# Altium footprint library Pattern No3d 20090609.PcbLib: 323 footprints (part 14 of 22)
Each footprint in its own frame and in the unit in brackets; x right, y up, seen from the top. Pads: shape width x height; smd on the part's side, far side on the other; paste and mask are expansions set on the pad; w line width, h text height; cw(c..) or ccw(c..) is an arc to the next point about the centre after c.
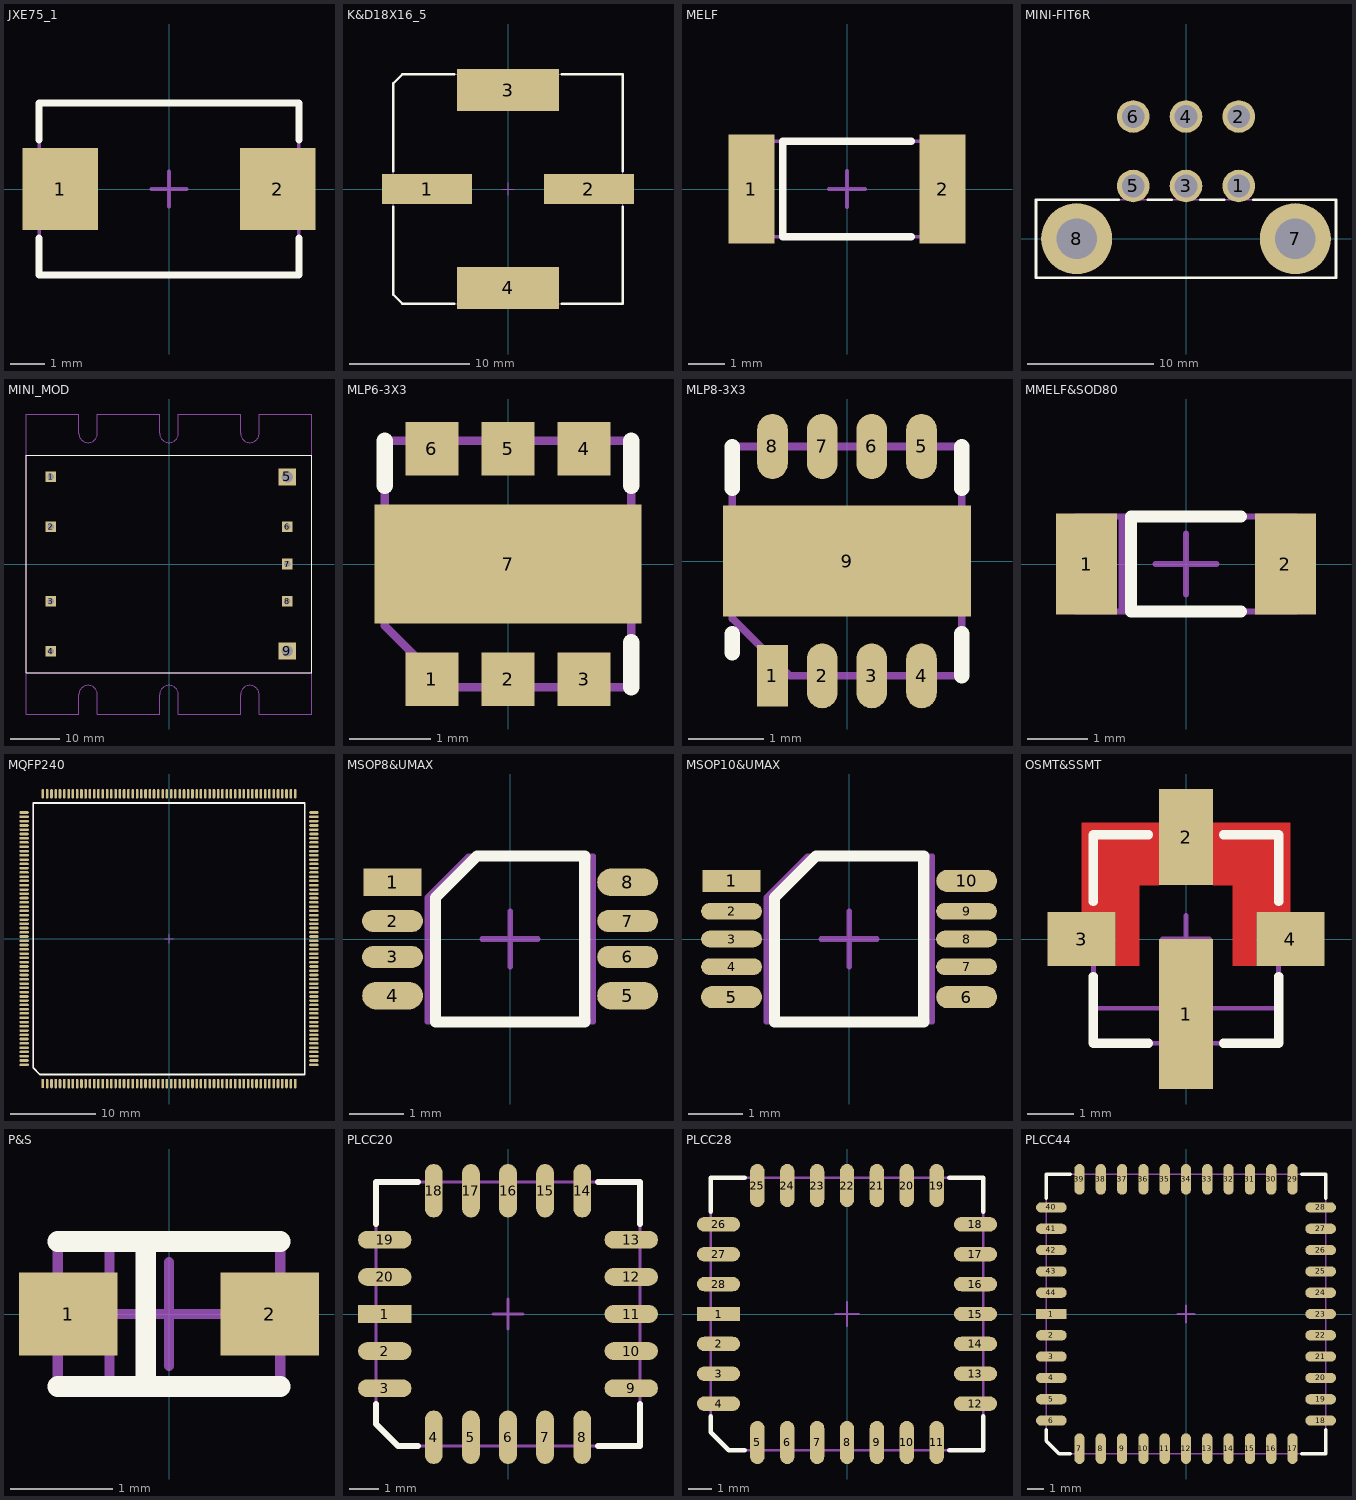
[diagram p13: the footprints below, top view; thin cyan lines are the x and y axes]

## JXE75_1 [mil] "http://www.jauch.de/ablage/med_00000678_1200589682_prd_00000021_de_HCJ015_JXE75.pdf"
pads (2):
  rect 86x94 smd mask+4: 1(-124,0) 2(124,0)
Top Overlay:
  lines w8: -148,-56 -148,-98 148,-98 148,-56 ; -148,56 -148,98 148,98 148,56
Mechanical 1:
  lines w4: -148,-98 -148,98 148,98 148,-98 -148,-98
Mechanical 15:
  lines w4: -20,0 20,0 ; 0,-20 0,20

## K&D18X16_5 [mil] "http://www.panasonic.com/industrial/components/pdf/ABA0000CE11.pdf (Size K16)"
pads (4):
  rect 296x98 smd mask+4: 1(-266,0) 2(266,0)
  rect 336x138 smd mask+4: 3(0,325) 4(0,-325)
Top Overlay:
  lines w8: -377,-58 -377,-347 -347,-377 -177,-377 ; -377,58 -377,347 -347,377 -177,377 ; 177,-377 377,-377 377,-58 ; 177,377 377,377 377,58
Mechanical 1:
  lines w4: -377,-347 -377,347 -347,377 377,377 377,-377 -347,-377 -377,-347
Mechanical 15:
  lines w4: -20,0 20,0 ; 0,-20 0,20

## MELF [mil] "http://www.vishay.com/docs/88527/1n6478.pdf"
pads (2):
  rect 50x118 smd mask+4: 1(-104,0) 2(104,0)
Top Overlay:
  lines w8: 70,-52 -70,-52 -70,52 70,52
Mechanical 1:
  lines w4: -72,-52 -72,52 ; -102,-52 -102,52 102,52 102,-52 -102,-52
Mechanical 15:
  lines w4: -20,0 20,0 ; 0,-20 0,20

## MINI-FIT6R [mil] "http://docs-asia.electrocomponents.com/webdocs/002b/0900766b8002b22c.pdf (Circuits 6)"
pads (8):
  round 102 / inner round 102 / far side oval 102x142 hole 71 mask+4: 1(165,165) 2(165,382) 3(0,165) 4(0,382) 5(-165,165) 6(-165,382)
  round 222 hole 126 mask+4: 7(342,0) 8(-342,0)
Top Overlay:
  lines w8: -210,122 -469,122 -469,-122 469,-122 469,122 210,122 ; -120,122 -45,122 ; 45,122 120,122
Mechanical 1:
  lines w4: -469,-122 469,-122 469,122 -469,122 -469,-122

## MINI_MOD [mil] "http://cdn.vicorpower.com/documents/datasheets/ds_vi-j00.pdf"
pads (9):
  rect 85x85 hole 51 mask+4: 1(-950,700) 2(-950,300) 3(-950,-300) 4(-950,-700) 6(950,300) 7(950,0) 8(950,-300)
  rect 138x138 hole 90 mask+4: 5(950,700) 9(950,-700)
Top Overlay:
  lines w8: -1145,-875 1145,-875 1145,875 -1145,875 -1145,-875
Mechanical 1:
  lines w4: -1145,-875 1145,-875 ; -1145,875 1145,875 ; -1145,-1205 -725,-1205 -725,-1050 cw(c-650,-1050) -575,-1050 -575,-1205 -75,-1205 -75,-1050 cw(c0,-1050) 75,-1050 75,-1205 575,-1205 575,-1050 cw(c650,-1050) 725,-1050 725,-1205 1145,-1205 1145,1205 725,1205 725,1050 cw(c650,1050) 575,1050 575,1205 75,1205 75,1050 cw(c0,1050) -75,1050 -75,1205 -575,1205 -575,1050 cw(c-650,1050) -725,1050 -725,1205 -1145,1205 -1145,-1205

## MLP6-3X3 [mil] "http://www.fairchildsemi.com/dwg/ML/MLP06A.pdf"
pads (7):
  rect 26x26 smd mask-1000: 1(-37,-56) 2(0,-56) 3(37,-56) 4(37,56) 5(0,56) 6(-37,56)
  rect 130x58 smd paste-1000 mask-1000: 7(0,0)
Top Overlay:
  lines w8: -60,38 -60,60 ; 60,-60 60,-38 ; 60,38 60,60
Top Paste:
  region: 11,-13 11,13 -11,13 -11,-13
  region: -23,-13 -23,13 -45,13 -45,-13
  region: 45,-13 45,13 23,13 23,-13
Top Solder:
  region: -22,40 -22,73 -54,73 -54,40
  region: 54,40 54,73 22,73 22,40
  region: 15,40 15,73 -15,73 -15,40
  region: 15,-73 15,-40 -15,-40 -15,-73
  region: 54,-73 54,-40 22,-40 22,-73
  region: 69,-32 69,32 -69,32 -69,-32
  region: -22,-73 -22,-40 -60,-40 -60,-73
Mechanical 1:
  lines w4: -60,-30 -30,-60 60,-60 60,60 -60,60 -60,-30
Mechanical 15:
  lines w4: -20,0 20,0 ; 0,-20 0,20

## MLP8-3X3 [mil] "http://www.fairchildsemi.com/dwg/ML/MLP08D.pdf"
pads (9):
  rect 16x32 smd mask-1000: 1(-39,-60)
  oval 16x34 smd mask-1000: 2(-13,-60) 3(13,-60) 4(39,-60) 5(39,60) 6(13,60) 7(-13,60) 8(-39,60)
  rect 130x58 smd paste-1000 mask-1000: 9(0,0)
Top Overlay:
  lines w8: -60,-48 -60,-38 ; -60,38 -60,60 ; 60,-60 60,-38 ; 60,38 60,60
Top Paste:
  region: 11,-13 11,13 -11,13 -11,-13
  region: -23,-13 -23,13 -45,13 -45,-13
  region: 45,-13 45,13 23,13 23,-13
Top Solder:
  region: 69,-32 69,32 -69,32 -69,-32
  region: -29,-80 -29,-40 -51,-40 -51,-80
  lines w20: -13,-71 -13,-49 ; -13,49 -13,71 ; 13,-71 13,-49 ; 13,49 13,71
  lines w22: -40,50 -40,70 ; 40,-70 40,-50 ; 40,50 40,70
Mechanical 1:
  lines w4: -60,-30 -60,60 60,60 60,-60 -30,-60 -60,-30
Mechanical 15:
  lines w4: -20,0 20,0 ; 0,-20 0,20

## MMELF&SOD80 [mil] "http://www.nxp.com/acrobat_download/packages/SOD80C.pdf"
pads (2):
  rect 40x66 smd mask+4: 1(-65,0) 2(65,0)
Top Overlay:
  lines w8: 36,-31 -36,-31 -36,31 36,31
Mechanical 1:
  lines w4: -42,-31 -42,31 ; -72,-31 72,-31 72,31 -72,31 -72,-31
Mechanical 15:
  lines w4: -20,0 20,0 ; 0,-20 0,20

## MQFP240 [mil] "http://www.nxp.com/acrobat_download/packages/SOT474-2.pdf"
pads (240):
  rect 12x42 smd mask-1000: 1(-581,-667)
  oval 12x44 smd mask-1000: 2(-561,-667) 3(-541,-667) 4(-521,-667) 5(-502,-667) 6(-482,-667) 7(-462,-667) 8(-443,-667) 9(-423,-667) 10(-403,-667) 11(-384,-667) 12(-364,-667) 13(-344,-667) 14(-325,-667) 15(-305,-667) 16(-285,-667) 17(-266,-667) 18(-246,-667) 19(-226,-667) 20(-207,-667) 21(-187,-667) 22(-167,-667) 23(-147,-667) 24(-128,-667) 25(-108,-667) 26(-88,-667) 27(-69,-667) 28(-49,-667) 29(-29,-667) 30(-10,-667) 31(10,-667) 32(29,-667) 33(49,-667) 34(69,-667) 35(88,-667) 36(108,-667) 37(128,-667) 38(147,-667) 39(167,-667) 40(187,-667) 41(207,-667) 42(226,-667) 43(246,-667) 44(266,-667) 45(285,-667) 46(305,-667) 47(325,-667) 48(344,-667) 49(364,-667) 50(384,-667) 51(403,-667) 52(423,-667) 53(443,-667) 54(462,-667) 55(482,-667) 56(502,-667) 57(521,-667) 58(541,-667) 59(561,-667) 60(581,-667) 121(581,667) 122(561,667) 123(541,667) 124(521,667) 125(502,667) 126(482,667) 127(462,667) 128(443,667) 129(423,667) 130(403,667) 131(384,667) 132(364,667) 133(344,667) 134(325,667) 135(305,667) 136(285,667) 137(266,667) 138(246,667) 139(226,667) 140(207,667) 141(187,667) 142(167,667) 143(147,667) 144(128,667) 145(108,667) 146(88,667) 147(69,667) 148(49,667) 149(29,667) 150(10,667) 151(-10,667) 152(-29,667) 153(-49,667) 154(-69,667) 155(-88,667) 156(-108,667) 157(-128,667) 158(-147,667) 159(-167,667) 160(-187,667) 161(-207,667) 162(-226,667) 163(-246,667) 164(-266,667) 165(-285,667) 166(-305,667) 167(-325,667) 168(-344,667) 169(-364,667) 170(-384,667) 171(-403,667) 172(-423,667) 173(-443,667) 174(-462,667) 175(-482,667) 176(-502,667) 177(-521,667) 178(-541,667) 179(-561,667) 180(-581,667)
  oval 44x12 smd mask-1000: 61(667,-581) 62(667,-561) 63(667,-541) 64(667,-521) 65(667,-502) 66(667,-482) 67(667,-462) 68(667,-443) 69(667,-423) 70(667,-403) 71(667,-384) 72(667,-364) 73(667,-344) 74(667,-325) 75(667,-305) 76(667,-285) 77(667,-266) 78(667,-246) 79(667,-226) 80(667,-207) 81(667,-187) 82(667,-167) 83(667,-147) 84(667,-128) 85(667,-108) 86(667,-88) 87(667,-69) 88(667,-49) 89(667,-29) 90(667,-10) 91(667,10) 92(667,29) 93(667,49) 94(667,69) 95(667,88) 96(667,108) 97(667,128) 98(667,147) 99(667,167) 100(667,187) 101(667,207) 102(667,226) 103(667,246) 104(667,266) 105(667,285) 106(667,305) 107(667,325) 108(667,344) 109(667,364) 110(667,384) 111(667,403) 112(667,423) 113(667,443) 114(667,462) 115(667,482) 116(667,502) 117(667,521) 118(667,541) 119(667,561) 120(667,581) 181(-667,581) 182(-667,561) 183(-667,541) 184(-667,521) 185(-667,502) 186(-667,482) 187(-667,462) 188(-667,443) 189(-667,423) 190(-667,403) 191(-667,384) 192(-667,364) 193(-667,344) 194(-667,325) 195(-667,305) 196(-667,285) 197(-667,266) 198(-667,246) 199(-667,226) 200(-667,207) 201(-667,187) 202(-667,167) 203(-667,147) 204(-667,128) 205(-667,108) 206(-667,88) 207(-667,69) 208(-667,49) 209(-667,29) 210(-667,10) 211(-667,-10) 212(-667,-29) 213(-667,-49) 214(-667,-69) 215(-667,-88) 216(-667,-108) 217(-667,-128) 218(-667,-147) 219(-667,-167) 220(-667,-187) 221(-667,-207) 222(-667,-226) 223(-667,-246) 224(-667,-266) 225(-667,-285) 226(-667,-305) 227(-667,-325) 228(-667,-344) 229(-667,-364) 230(-667,-384) 231(-667,-403) 232(-667,-423) 233(-667,-443) 234(-667,-462) 235(-667,-482) 236(-667,-502) 237(-667,-521) 238(-667,-541) 239(-667,-561) 240(-667,-581)
Top Overlay:
  lines w8: -625,-595 -595,-625 625,-625 625,625 -625,625 -625,-595
Top Solder:
  drawing of 240 lines, arcs and shapes, not listed
Mechanical 1:
  lines w4: -625,-595 -595,-625 625,-625 625,625 -625,625 -625,-595
Mechanical 15:
  lines w4: -20,0 20,0 ; 0,-20 0,20

## MSOP8&UMAX [mil] "http://www.nxp.com/acrobat_download/packages/SOT505-1.pdf"
pads (8):
  rect 42x20 smd mask-1000: 1(-85,41)
  oval 44x16 smd mask-1000: 2(-85,13) 3(-85,-13) 6(85,-13) 7(85,13)
  oval 44x20 smd mask-1000: 4(-85,-41) 5(85,-41) 8(85,41)
Top Overlay:
  lines w8: -54,-60 -54,30 -24,60 54,60 54,-60 -54,-60
Top Solder:
  region: -60,53 -110,53 -110,29 -60,29
  lines w20: -101,-13 -69,-13 ; -101,13 -69,13 ; 69,-13 101,-13 ; 69,13 101,13
  lines w24: -99,-41 -71,-41 ; 71,-41 99,-41 ; 71,41 99,41
Mechanical 1:
  lines w4: -60,-60 -60,30 -30,60 60,60 60,-60 -60,-60
Mechanical 15:
  lines w4: -20,0 20,0 ; 0,-20 0,20

## MSOP10&UMAX [mil] "http://www.standardics.nxp.com/packaging/package.outlines/pdf/sot552-1.pdf"
pads (10):
  rect 42x16 smd mask-1000: 1(-85,42)
  oval 44x12 smd mask-1000: 2(-85,20) 3(-85,0) 4(-85,-20) 7(85,-20) 8(85,0) 9(85,20)
  oval 44x16 smd mask-1000: 5(-85,-42) 6(85,-42) 10(85,42)
Top Overlay:
  lines w8: -54,-60 -54,30 -24,60 54,60 54,-60 -54,-60
Top Solder:
  region: -60,53 -110,53 -110,33 -60,33
  lines w14: -104,-20 -66,-20 ; -104,0 -66,0 ; -104,20 -66,20 ; 66,-20 104,-20 ; 66,0 104,0 ; 66,20 104,20
  lines w20: -101,-43 -69,-43 ; 69,-43 101,-43 ; 69,43 101,43
Mechanical 1:
  lines w4: -60,-60 -60,30 -30,60 60,60 60,-60 -60,-60
Mechanical 15:
  lines w4: -20,0 20,0 ; 0,-20 0,20

## OSMT&SSMT [mil] "http://ecommas.tycoelectronics.com/commerce/DocumentDelivery/DDEController?Action=showdoc&DocId=Customer+Drawing%7F1055687%7FC%7Fpdf%7FEnglish%7FENG_CD_1055687_C.pdf"
pads (4):
  rect 46x128 smd mask+4: 1(0,-64)
  rect 46x82 smd mask+4: 2(0,87)
  rect 58x46 smd mask+4: 3(-89,0) 4(89,0)
Top Layer:
  region: 23,46 40,46 40,-23 60,-23 60,23 89,23 89,99 23,99
  region: -89,23 -60,23 -60,-23 -40,-23 -40,46 -23,46 -23,99 -89,99
Top Overlay:
  lines w8: -79,-32 -79,-89 -32,-89 ; -79,32 -79,89 -32,89 ; 32,-89 79,-89 79,-32 ; 32,89 79,89 79,32
Mechanical 1:
  lines w4: -79,-59 79,-59 ; -79,-89 -79,89 79,89 79,-89 -79,-89
Mechanical 15:
  lines w4: -20,0 20,0 ; 0,-20 0,20

## P&S [mil] "http://www.nec-tokin.com/english/product/pdf_dl/capacitors.pdf (Case P)"
pads (2):
  rect 38x32 smd mask+4: 1(-39,0) 2(39,0)
Top Overlay:
  lines w8: -43,-28 43,-28 ; -43,28 43,28 ; -9,-28 -9,28
Mechanical 1:
  lines w4: -23,-28 -23,28 ; -43,-28 43,-28 43,28 -43,28 -43,-28
Mechanical 15:
  lines w4: -20,0 20,0 ; 0,-20 0,20

## PLCC20 [mil] "http://www.nxp.com/acrobat_download/packages/SOT380-1.pdf"
pads (20):
  rect 72x24 smd mask+4: 1(-166,0)
  oval 72x24 smd mask+4: 2(-166,-50) 3(-166,-100) 9(166,-100) 10(166,-50) 11(166,0) 12(166,50) 13(166,100) 19(-166,100) 20(-166,50)
  oval 24x72 smd mask+4: 4(-100,-166) 5(-50,-166) 6(0,-166) 7(50,-166) 8(100,-166) 14(100,166) 15(50,166) 16(0,166) 17(-50,166) 18(-100,166)
Top Overlay:
  lines w8: -178,-121 -178,-148 -148,-178 -121,-178 ; -178,121 -178,178 -121,178 ; 121,-178 178,-178 178,-121 ; 121,178 178,178 178,121
Mechanical 1:
  lines w4: -178,-148 -148,-178 178,-178 178,178 -178,178 -178,-148
Mechanical 15:
  lines w4: -20,0 20,0 ; 0,-20 0,20

## PLCC28 [mil] "http://www.nxp.com/acrobat_download/packages/SOT261-2.pdf"
pads (28):
  rect 72x24 smd mask+4: 1(-215,0)
  oval 72x24 smd mask+4: 2(-215,-50) 3(-215,-100) 4(-215,-150) 12(215,-150) 13(215,-100) 14(215,-50) 15(215,0) 16(215,50) 17(215,100) 18(215,150) 26(-215,150) 27(-215,100) 28(-215,50)
  oval 24x72 smd mask+4: 5(-150,-215) 6(-100,-215) 7(-50,-215) 8(0,-215) 9(50,-215) 10(100,-215) 11(150,-215) 19(150,215) 20(100,215) 21(50,215) 22(0,215) 23(-50,215) 24(-100,215) 25(-150,215)
Top Overlay:
  lines w8: -228,-171 -228,-198 -198,-228 -171,-228 ; -228,171 -228,228 -171,228 ; 171,-228 228,-228 228,-171 ; 171,228 228,228 228,171
Mechanical 1:
  lines w4: -228,-198 -228,228 228,228 228,-228 -198,-228 -228,-198
Mechanical 15:
  lines w4: -20,0 20,0 ; 0,-20 0,20

## PLCC44 [mil] "http://www.nxp.com/acrobat_download/packages/SOT187-2.pdf"
pads (44):
  rect 72x24 smd mask+4: 1(-316,0)
  oval 72x24 smd mask+4: 2(-316,-50) 3(-316,-100) 4(-316,-150) 5(-316,-200) 6(-316,-250) 18(316,-250) 19(316,-200) 20(316,-150) 21(316,-100) 22(316,-50) 23(316,0) 24(316,50) 25(316,100) 26(316,150) 27(316,200) 28(316,250) 40(-316,250) 41(-316,200) 42(-316,150) 43(-316,100) 44(-316,50)
  oval 24x72 smd mask+4: 7(-250,-316) 8(-200,-316) 9(-150,-316) 10(-100,-316) 11(-50,-316) 12(0,-316) 13(50,-316) 14(100,-316) 15(150,-316) 16(200,-316) 17(250,-316) 29(250,316) 30(200,316) 31(150,316) 32(100,316) 33(50,316) 34(0,316) 35(-50,316) 36(-100,316) 37(-150,316) 38(-200,316) 39(-250,316)
Top Overlay:
  lines w8: -328,-271 -328,-298 -298,-328 -271,-328 ; -328,271 -328,328 -271,328 ; 271,-328 328,-328 328,-271 ; 271,328 328,328 328,271
Mechanical 1:
  lines w4: -328,-298 -328,328 328,328 328,-328 -298,-328 -328,-298
Mechanical 15:
  lines w4: -20,0 20,0 ; 0,-20 0,20